# EAGLE library part TDA8586TH (library Audio-Power-amlifier V.2.0)
Power amplifier with load detection and auto BTL/SE selection
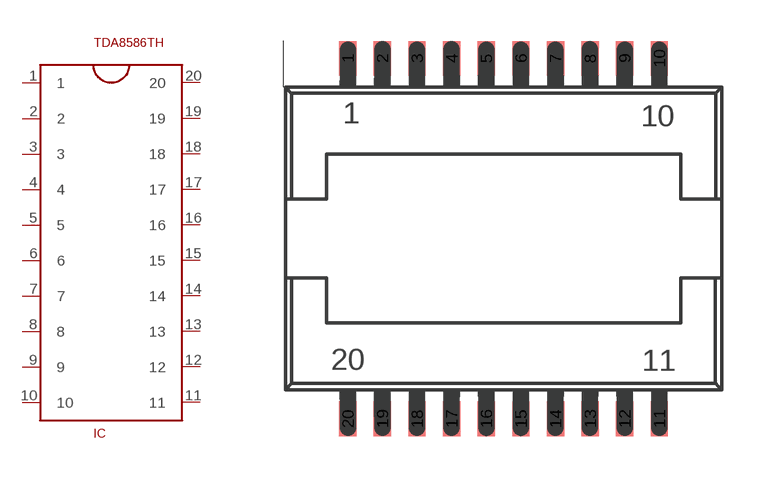
[diagram p57: symbol with the pads of SOT418-3; footprint SOT418-3]

Designator prefix IC

## TDA8586TH  [SOT418-3]
1  1  nc
2  2  in
3  3  in
4  4  in
5  5  in
6  6
7  7
8  8
9  9
10  10
11  11  out
12  12
13  13  pwr
14  14  out
15  15  pwr
16  16  pwr
17  17  out
18  18  pwr
19  19
20  20  out

## Footprint SOT418-3 (pad centres in mm)
smd 0.635 x 1.27: 1 -5.715,6.615; 2 -4.445,6.615; 3 -3.175,6.615; 4 -1.905,6.615; 5 -0.635,6.615; 6 0.635,6.615; 7 1.905,6.615; 8 3.175,6.615; 9 4.445,6.615; 10 5.715,6.615; 11 5.715,-6.615; 12 4.445,-6.615; 13 3.175,-6.615; 14 1.905,-6.615; 15 0.635,-6.615; 16 -0.635,-6.615; 17 -1.905,-6.615; 18 -3.175,-6.615; 19 -4.445,-6.615; 20 -5.715,-6.615